# EAGLE library part TP4056-PROT (library lib_stankus)
TP4056-PROTECT
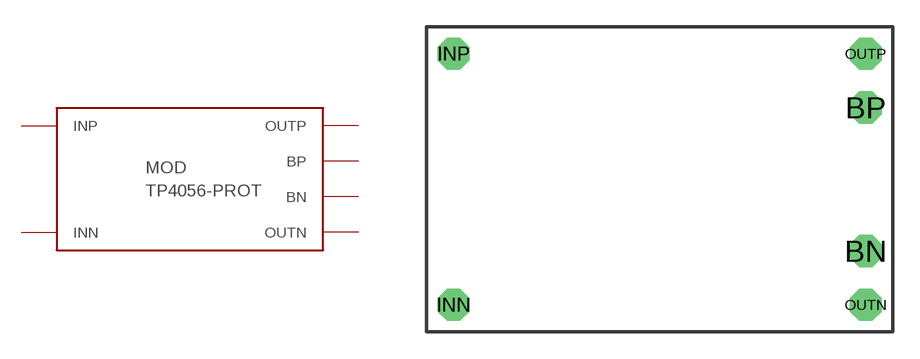
[diagram p119: symbol with the pads of TP4056-PROT; footprint TP4056-PROT]

Designator prefix MOD

## TP4056-PROT  [TP4056-PROT]
BN  BN  pas
BP  BP  pas
INN  INN  pas
INP  INP  pas
OUTN  OUTN  pas
OUTP  OUTP  pas

## Footprint TP4056-PROT (pad centres in mm)
TP4056-PROTECT
drill 1 pad 1.8 octagon: BN 11.5,-4; BP 11.5,4; INN -11.5,-7; INP -11.5,7; OUTN 11.5,-7; OUTP 11.5,7